# Altium footprint library Lib Pcb.PcbLib: 84 footprints (part 6 of 6)
Each footprint in its own frame and in the unit in brackets; x right, y up, seen from the top. Pads: shape width x height; smd on the part's side, far side on the other; paste and mask are expansions set on the pad; w line width, h text height; cw(c..) or ccw(c..) is an arc to the next point about the centre after c.
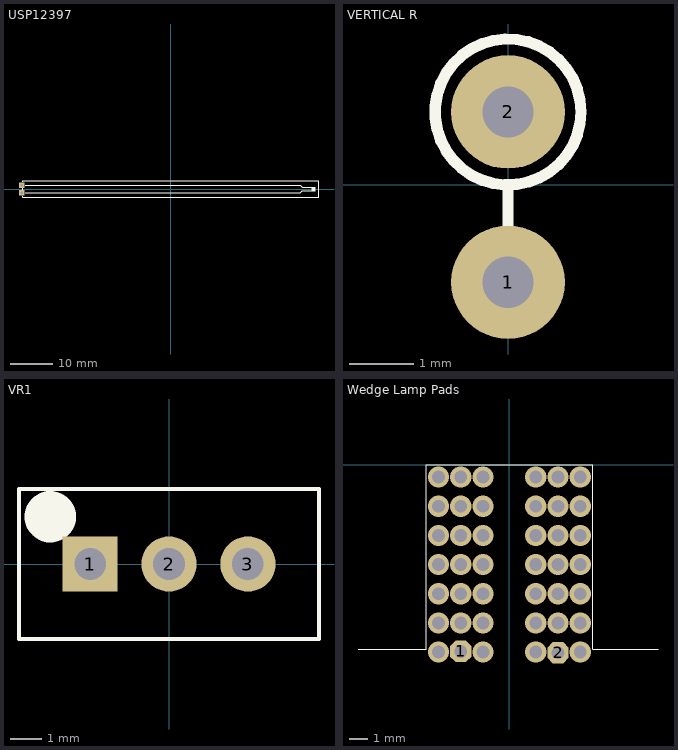
[diagram p5: the footprints below, top view; thin cyan lines are the x and y axes]

## USP12397 [mil] "Thermistor Flex PCB"
height 35
pads (2):
  rect 50x50 hole 25: 1(-1385,-35) 2(-1385,35)
Top Overlay:
  region: 1310,15 1340,15 1340,-15 1310,-15
  lines w7: -1375,-65 -1375,-75 1375,-75 1375,75 -1375,75 -1375,65 ; -1375,-5 -1375,5 ; -1350,-35 1200,-35 1220,-15 1300,-15 1340,-15 ; -1350,35 1200,35 1220,15 1300,15 1340,15
3D body: height 35, standoff 0, extent 1310,-15 1340,15
3D body: height 25, standoff 10, extent -1350,-75 1375,75

## VERTICAL R [mil] "VERTICAL R"
height 200
pads (2):
  round 70 hole 31.5: 1(0,-60) 2(0,45)
Top Overlay:
  circle w7: c0,45 r45
  lines w7: 0,-25 0,0
3D body: height 300, standoff -75, extent -44.99,-70.01 45,84.99

## VR1 [mil] "Trim 10T Vertical"
height 400
pads (3):
  rect 70x70 hole 40: 1(-100,0)
  round 70 hole 40: 2(0,0) 3(100,0)
Top Overlay:
  circle w35: c-150.32,59.92 r15
  lines w5: -190,-95 -190,95 190,95 190,-95 -190,-95
3D body: height 417, standoff 5, extent -190,-95 190,95
3D body: height 476, standoff 6, extent -189.01,16 -111.32,93.84
3D body: height 478, standoff 450, extent -190.32,49.92 -110.32,59.92

## Wedge Lamp Pads [mil] "Wedge Lamp Socket"
height 85
pads (2):
  oct 46x46 hole 27.6: 1(-105,-403.5) 2(105,-406.5)
via 153,-27 diameter 46 hole 27.6
via 105,-27 diameter 46 hole 27.6
via 57,-27 diameter 46 hole 27.6
via -153,-27 diameter 46 hole 27.6
via -105,-27 diameter 46 hole 27.6
via -57,-27 diameter 46 hole 27.6
via -57,-90 diameter 46 hole 27.6
via -105,-90 diameter 46 hole 27.6
via -153,-90 diameter 46 hole 27.6
via 57,-90 diameter 46 hole 27.6
via 105,-90 diameter 46 hole 27.6
via 153,-90 diameter 46 hole 27.6
via -57,-153 diameter 46 hole 27.6
via -105,-153 diameter 46 hole 27.6
via -153,-153 diameter 46 hole 27.6
via 57,-153 diameter 46 hole 27.6
via 105,-153 diameter 46 hole 27.6
via 153,-153 diameter 46 hole 27.6
via -57,-216 diameter 46 hole 27.6
via -105,-216 diameter 46 hole 27.6
via -153,-216 diameter 46 hole 27.6
via 57,-216 diameter 46 hole 27.6
via 105,-216 diameter 46 hole 27.6
via 153,-216 diameter 46 hole 27.6
via -57,-279 diameter 46 hole 27.6
via -105,-279 diameter 46 hole 27.6
via -153,-279 diameter 46 hole 27.6
via 57,-279 diameter 46 hole 27.6
via 105,-279 diameter 46 hole 27.6
via 153,-279 diameter 46 hole 27.6
via -57,-342 diameter 46 hole 27.6
via -105,-342 diameter 46 hole 27.6
via -153,-342 diameter 46 hole 27.6
via 57,-342 diameter 46 hole 27.6
via 105,-342 diameter 46 hole 27.6
via 153,-342 diameter 46 hole 27.6
via -57,-405 diameter 46 hole 27.6
via -153,-405 diameter 46 hole 27.6
via 57,-405 diameter 46 hole 27.6
via 153,-405 diameter 46 hole 27.6
Top Overlay:
  lines w1: -327,-399 -180,-399 -180,0 180,0 180,-399 321,-399
Multi-Layer:
  region: -30,-398.5 -30,-0.5 -180,-0.5 -180,-398.5
  region: 180,-398.5 180,-0.5 30,-0.5 30,-398.5